# Altium footprint library Resistor1.PcbLib: 2 footprints
Each footprint in its own frame and in the unit in brackets; x right, y up, seen from the top. Pads: shape width x height; smd on the part's side, far side on the other; paste and mask are expansions set on the pad; w line width, h text height; cw(c..) or ccw(c..) is an arc to the next point about the centre after c.
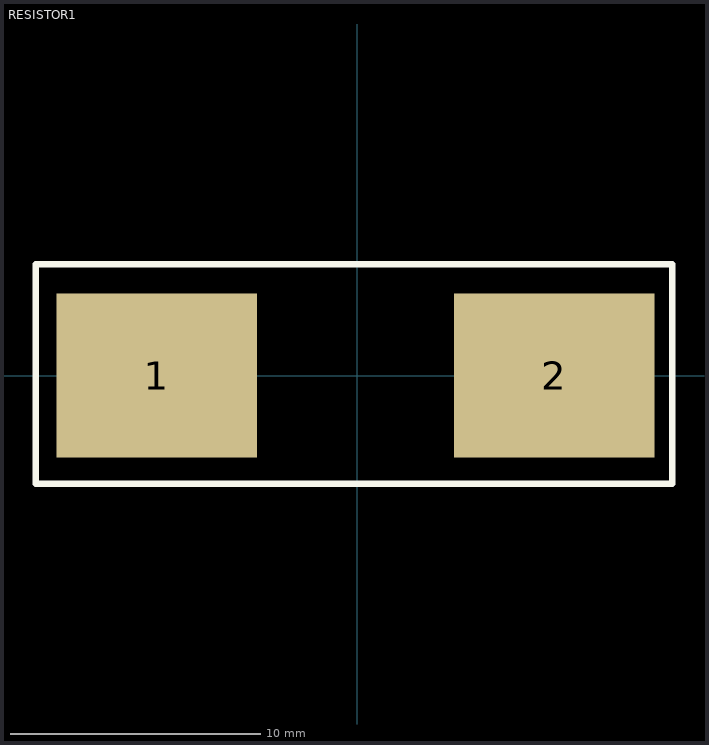
[diagram p0: the footprints below, top view; thin cyan lines are the x and y axes]

## PCBComponent_1 [mm]

## RESISTOR1 [mm]
height 1.8
pads (2):
  rect 8x6.55 smd: 1(-8.001,0) 2(7.874,0)
Top Overlay:
  lines w0.254: -12.827,-4.318 -12.827,4.445 12.573,4.445 12.573,-4.318 -12.827,-4.318